# EAGLE library part SN74LS283N (library ICs)
4-BIT BINARY FULL ADDERS WITH FASR CARRY Source: Datasheet <http://www.ti.com/lit/gpn/sn74ls283>
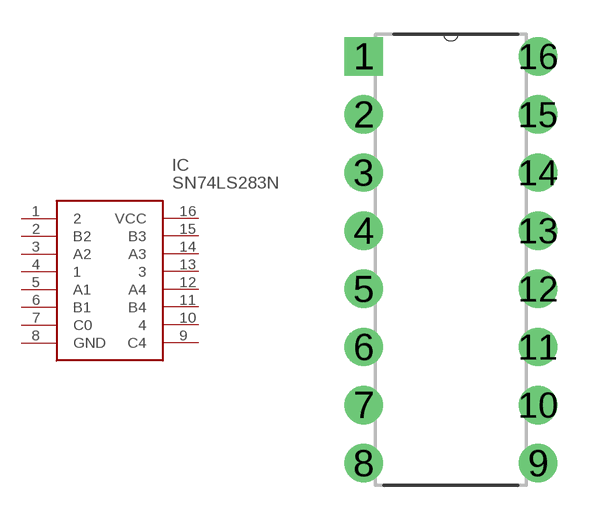
[diagram p13: symbol with the pads of DIP254P762X508-16; footprint DIP254P762X508-16]

Designator prefix IC

## SN74LS283N (DESCRIPTION: 4-BIT BINARY FULL ADDERS WITH FASR CARRY; HEIGHT: mm; MANUFACTURER_NAME: Texas Instruments; MANUFACTURER_PART_NUMBER: SN74LS283N; MOUSER_PART_NUMBER: 595-SN74LS283N; MOUSER_PRICE-STOCK: https://www.mouser.com/Search/Refine.aspx?Keyword=595-SN74LS283N; RS_PART_NUMBER: 0309212; RS_PRICE-STOCK: http://uk.rs-online.com/web/p/products/0309212)  [DIP254P762X508-16]
1  2
2  B2
3  A2
4  1
5  A1
6  B1
7  C0
8  GND
9  C4
10  4
11  B4
12  A4
13  3
14  A3
15  B3
16  VCC

## Footprint DIP254P762X508-16 (pad centres in mm)
drill 1.118 square: 1 -7.62,17.78
drill 1.118: 2 -7.62,15.24; 3 -7.62,12.7; 4 -7.62,10.16; 5 -7.62,7.62; 6 -7.62,5.08; 7 -7.62,2.54; 8 -7.62,0; 9 0,0; 10 0,2.54; 11 0,5.08; 12 0,7.62; 13 0,10.16; 14 0,12.7; 15 0,15.24; 16 0,17.78